# Altium schematic symbol library PPTC061LFBN-RC.SCHLIB: 1 symbol
Pins are listed as number, name and electrical type; pins without a type are passive.

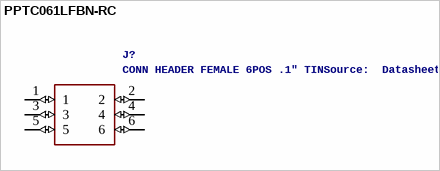
[diagram p0: symbol PPTC061LFBN-RC]

## PPTC061LFBN-RC
designator J?, comment CONN HEADER FEMALE 6POS .1" TINSource:  Datasheet
Manufacturer_Name: Sullins; GateName_1: G$1; SymbolName_1: PPTC061LFBN-RC; LibraryName: PPTC061LFBN-RC; DeviceSetName: PPTC061LFBN-RC; Package: SHDR6W87P254_2X3_812X508X870P; Manufacturer_Part_Number: PPTC061LFBN-RC; Arrow_Part_Number: PPTC061LFBN-RC; Description: CONN HEADER FEMALE 6POS .1" TIN; Height: 8.7mm
footprint SHDR6W87P254_2X3_812X508X870P
pins: 1 (io), 2 (io), 3 (io), 4 (io), 5 (io), 6 (io)